# Altium integrated library TE PCB Terminals.IntLib: 3 symbols
Pins are listed as number, name and electrical type; pins without a type are passive.

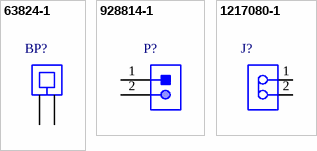
[diagram p0: symbols 63824-1 to 1217080-1]

## 63824-1
designator BP?
Printed Circuit Board Terminal and Disconnect, 2-Pin THD, RoHS, Tape and Reel; SVHC: To Be Advised; Tab Size - Imperial: 0.25" x 0.032"; Tab Size - Metric: 6.35mm x 0.81mm; Mounting Hole Dia: 1.4mm; DatasheetVersion: Rev. R; PackageReference: THD; PackageDescription: 2-Pin Through Hole Device, Body 7.92 x 3.08 mm, Pitch 5.08 mm; Supplier 1: Digi-Key; Supplier Part Number 1: A29938TR-ND; Supplier 2: Digi-Key; Supplier Part Number 2: A29938CT-ND; Terminal Material: Brass; Terminal Plating: Tin; Product Range: -; Mounting Technology: Through Hole; ComponentLink1Description: Manufacturer URL; ComponentLink1URL: http://www.te.com; ComponentLink2Description: Datasheet; ComponentLink2URL: http://www.te.com/commerce/DocumentDelivery/DDEController?Action=showdoc&DocId=Customer+Drawing%7F63824%7FR%7Fpdf%7FEnglish%7FENG_CD_63824_R_baseFilename.pdf%7F63824-1
footprint TECO-63824-1_V (THD, 2-Leads, Body 7.92x3.08mm, Pitch 5.08mm)
pins: 1, 2

## 928814-1
designator P?
Header, Pitch 5 mm, 1 x 2 Position, Height 7.6 mm; Tab Thickness: 0.032" (0.81mm); Gender: Male; Insulation: Non-Insulated; Tab Length: 0.358" (9.09mm); Tab Width: 0.250" (6.35mm); Dynamic Catalog: Faston Series; Other Names: 928814-1-ND / A106570; DatasheetVersion: Rev. A2; PackageReference: THD; PackageDescription: Header, Pitch 5 mm, 1 x 2 Position, Height 7.6 mm; Supplier 1: Digi-Key; Supplier Part Number 1: A106570-ND; Standard Package: 10,000; Termination: Solder; Packaging: Bulk; RoHS Information: 928814-1 Statement of Compliance; Family: Terminals - Quick Connects, Quick Disconnect Connectors; Series: Faston; Contact Material: Brass; Terminal Type: Standard; Contact Finish: Tin; Category: Connectors, Interconnects; Mounting Type: Through Hole, Right Angle; ComponentLink1Description: Manufacturer URL; ComponentLink1URL: http://www.te.com; ComponentLink2Description: Datasheet; ComponentLink2URL: http://www.te.com/commerce/DocumentDelivery/DDEController?Action=srchrtrv&DocNm=928814&DocType=Customer+Drawing&DocLang=English
footprint TECO-928814-1_V (THD, 2-Leads, Body 16x0.8mm, Pitch 5mm)
pins: 1, 2

## 1217080-1
designator J?
Female, Quick-Fit Terminal Connector, -40 to 105 degC, 2-Pin THD, RoHS, Bulk; Tab Thickness: 0.032" (0.81mm); 3D Model: 1217080-1.pdf; Insulation: Non-Insulated; Tab Length: 0.330" (8.38mm); Tab Width: 0.205" (5.21mm), 0.250" (6.35mm); DatasheetVersion: Rev. B1; PackageReference: THD; PackageDescription: 2-Pin Through Hole Device, Body Width 7.42 mm, Pitch 5.08 mm; Supplier 1: Digi-Key; Supplier Part Number 1: 1217080-1-ND; Standard Package: 1,000; Length - Overall: 0.480" (12.19mm); Termination: Solder; Packaging: Bulk; Gender: Female; RoHS Information: 1217080-1 Statement of Compliance; Family: Terminals - Quick Connects, Quick Disconnect Connectors; Series: Faston; Contact Material: Brass; Terminal Type: Standard; Contact Finish: Tin; Category: Connectors, Interconnects; Mounting Type: Through Hole; ComponentLink1Description: Manufacturer URL; ComponentLink1URL: http://www.te.com; ComponentLink2Description: Datasheet; ComponentLink2URL: https://datasheet.ciiva.com/839/eng-cd-1217080-b1-839927.pdf
footprint TECO-1217080-1_V (THD, 2-Leads, Body Width 7.42mm, Pitch 5.08mm)
pins: 1, 2